# Altium footprint library AMPHENOL RJHSE-538X-03.PCBLIB: 1 footprints
Each footprint in its own frame and in the unit in brackets; x right, y up, seen from the top. Pads: shape width x height; smd on the part's side, far side on the other; paste and mask are expansions set on the pad; w line width, h text height; cw(c..) or ccw(c..) is an arc to the next point about the centre after c.
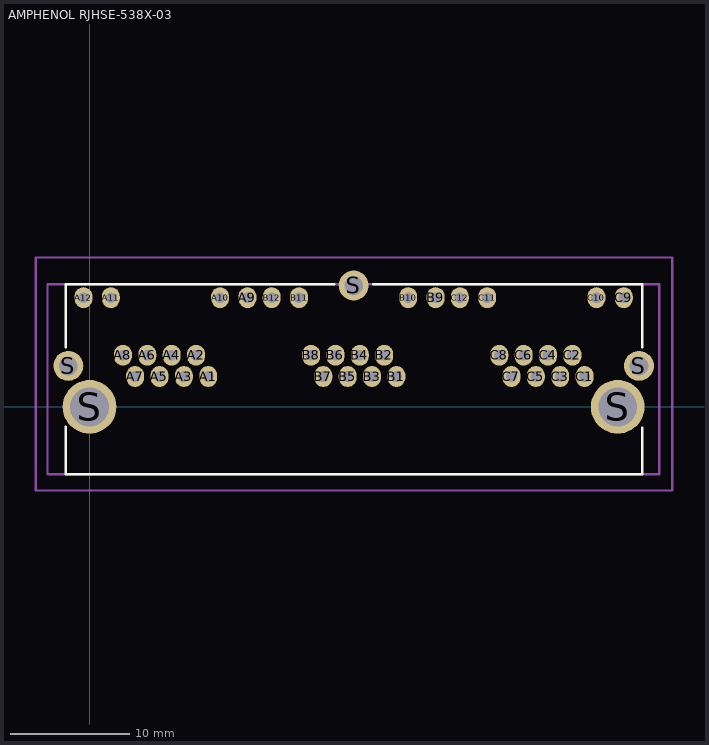
[diagram p0: the footprint, top view; thin cyan lines are the x and y axes]

## AMPHENOL RJHSE-538X-03 [mm]
height 13.46
pads (41):
  oval 1.5x1.75 hole 0.9: A1(9.93,2.54) A2(8.91,4.32) A3(7.89,2.54) A4(6.87,4.32) A5(5.85,2.54) A6(4.83,4.32) A7(3.81,2.54) A8(2.79,4.32) A9(13.21,9.14) A10(10.92,9.14) A11(1.78,9.14) A12(-0.51,9.14) B1(25.68,2.54) B2(24.66,4.32) B3(23.64,2.54) B4(22.62,4.32) B5(21.6,2.54) B6(20.58,4.32) B7(19.56,2.54) B8(18.54,4.32) B9(28.96,9.14) B10(26.67,9.14) B11(17.53,9.14) B12(15.24,9.14) C1(41.43,2.54) C2(40.41,4.32) C3(39.39,2.54) C4(38.37,4.32) C5(37.35,2.54) C6(36.33,4.32) C7(35.31,2.54) C8(34.29,4.32) C9(44.71,9.14) C10(42.42,9.14) C11(33.28,9.14) C12(30.99,9.14)
  round 2.5 hole 1.57: S(-1.78,3.43) S(22.1,10.16) S(45.98,3.43)
  round 4.5 hole 3.25: S(0,0) S(44.2,0)
Top Overlay:
  lines w0.2: -2,-1.675 -2,-5.65 46.25,-5.65 ; -2,5 -2,10.25 20.5,10.25 ; 23.75,10.25 46.25,10.25 ; 46.26,-5.65 46.26,-1.75 ; 46.26,5 46.26,10.25 ; 20.5,10.25 20.5,10.25
Mechanical 1:
  lines w0.2: 47.67,10.25 -3.525,10.25 -3.525,-5.65 47.686,-5.65 47.686,10.235
Mechanical 15:
  lines w0.2: -4.5,-7 -4.5,12.5 48.76,12.5 48.76,-7 -4.5,-7
3D body "Amphenol RJHSE-538X-03-REVT1.STEP": height 14.47, standoff -4.44, extent -3.345,-6.108 47.825,10.481